# Altium schematic symbol library 2113_DeElectronique.SchLib: 15 symbols
Pins are listed as number, name and electrical type; pins without a type are passive.

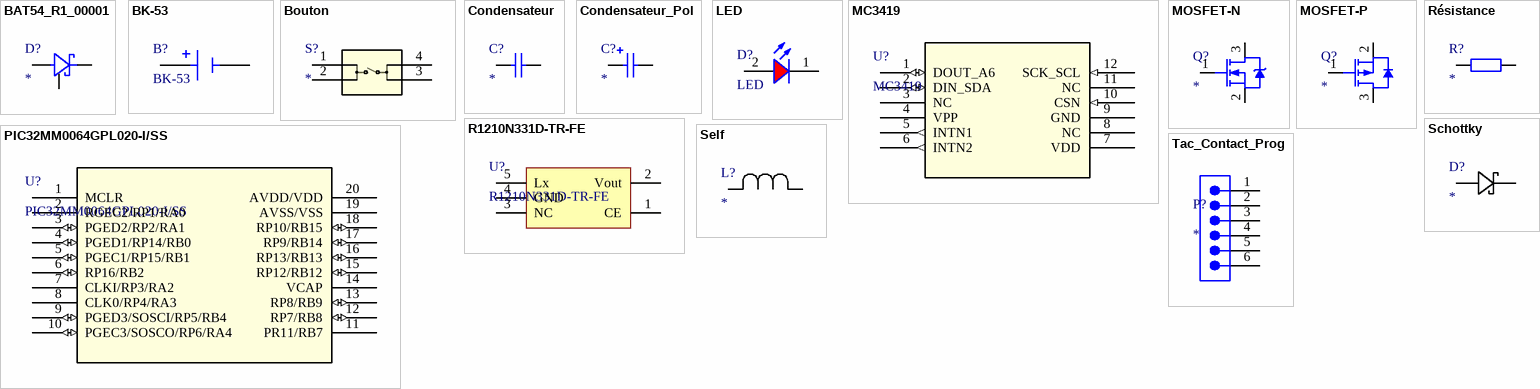
[diagram p0: symbols BAT54_R1_00001 to Tac_Contact_Prog]

## BAT54_R1_00001
designator D?
Manufacturer: Panjit; ManufacturerPart: BAT54_R1_00001; Supplier: *; SupplierPart: *
footprint SOT23-3
pins: 1, 2, 3

## BK-53
designator B?
BATT CONTACT CLIP AA 1 CELL SMD; Manufacturer: MPD (Memory Protection Devices); ManufacturerPart: BK-53; Supplier: *; SupplierPart: *
footprint BK-53
pins: 1+ POS, 1- NEG, 2+ POS, 2- NEG

## Bouton
designator S?
Manufacturer: *; ManufacturerPart: *; Supplier: *; SupplierPart: *
footprint PTS647SN50SMTR2LFS (Interrupteurs de contact 50mA 12VDC, 1.0N 5.0mm H, G leads)
pins: 1, 2, 3, 4

## Condensateur
designator C?
Manufacturer: *; ManufacturerPart: *; Supplier: *; SupplierPart: *
footprint Condo_0805
pins: 1, 2

## Condensateur_Pol
designator C?
Manufacturer: *; ManufacturerPart: *; Supplier: *; SupplierPart: *
footprint Condo_0805
pins: 1, 2

## LED
designator D?
Manufacturer: *; ManufacturerPart: *; Supplier: *; SupplierPart: *
footprint LED_0805
pins: 1 K, 2 A

## MC3419
designator U?
Accéléromètres Small Digital 3-axis Accelerometer Sensor; Manufacturer: MEMSIC; ManufacturerPart: MC3419; Supplier: *; SupplierPart: *
footprint MC3419 (Accéléromètres Small Digital 3-axis Accelerometer Sensor)
pins: 1 DOUT_A6 (io), 2 DIN_SDA (io), 3 NC, 4 VPP (power), 5 INTN1 (out), 6 INTN2 (out), 7 VDD (power), 8 NC, 9 GND, 10 CSN (in), 11 NC, 12 SCK_SCL (in)

## MOSFET-N
designator Q?
Manufacturer: *; ManufacturerPart: *; Supplier: *; SupplierPart: *
footprint SOT23-3
pins: 1 G, 2 S, 3 D

## MOSFET-P
designator Q?
Manufacturer: *; ManufacturerPart: *; Supplier: *; SupplierPart: *
footprint SOT23-3
pins: 1 GATE, 2 SOURCE, 3 DRAIN

## PIC32MM0064GPL020-I/SS
designator U?
Microcontrôleurs 32 bits - MCU 8KB RAM 79 Power microMIPS; Manufacturer: MicroChip; ManufacturerPart: PIC32MM0064GPL020-I/SS; Supplier: *; SupplierPart: *
footprint SSOP20_SS_MCH
pins: 1 MCLR, 2 RGEC2/RP1/RA0, 3 PGED2/RP2/RA1 (io), 4 PGED1/RP14/RB0 (io), 5 PGEC1/RP15/RB1 (io), 6 RP16/RB2 (io), 7 CLKI/RP3/RA2, 8 CLK0/RP4/RA3, 9 PGED3/SOSCI/RP5/RB4 (io), 10 PGEC3/SOSCO/RP6/RA4 (io), 11 PR11/RB7, 12 RP7/RB8 (io), 13 RP8/RB9 (io), 14 VCAP, 15 RP12/RB12 (io), 16 RP13/RB13 (io), 17 RP9/RB14 (io), 18 RP10/RB15 (io), 19 AVSS/VSS, 20 AVDD/VDD (power)

## R1210N331D-TR-FE
designator U?
Régulateurs de tension de commutation 8V Input PWM Step-up DCDC Converter; Manufacturer: Ricoh Electronic Devices Company; ManufacturerPart: R1210N331D-TR-FE; Supplier: *; SupplierPart: *
footprint SOT23-5
pins: 1 CE, 2 Vout, 3 NC, 4 GND, 5 Lx

## Résistance
designator R?
Manufacturer: *; ManufacturerPart: *; Supplier: *; SupplierPart: *
footprint Res_0805
pins: 1, 2

## Schottky
designator D?
Manufacturer: *; ManufacturerPart: *; Supplier: *; SupplierPart: *
footprint DO-214AC
pins: 1, 2

## Self
designator L?
Manufacturer: *; ManufacturerPart: *; Supplier: *; SupplierPart: *
footprint self 1206 (3225) (Inductance fixes 560uH 10%)
pins: 1, 2

## Tac_Contact_Prog
designator P?
Tac contact pour programmation
footprint TAC_Contact_Prog
pins: 1, 2, 3, 4, 5, 6